# Altium footprint library KF接线端子.PcbLib: 153 footprints (part 8 of 10)
Each footprint in its own frame and in the unit in brackets; x right, y up, seen from the top. Pads: shape width x height; smd on the part's side, far side on the other; paste and mask are expansions set on the pad; w line width, h text height; cw(c..) or ccw(c..) is an arc to the next point about the centre after c.
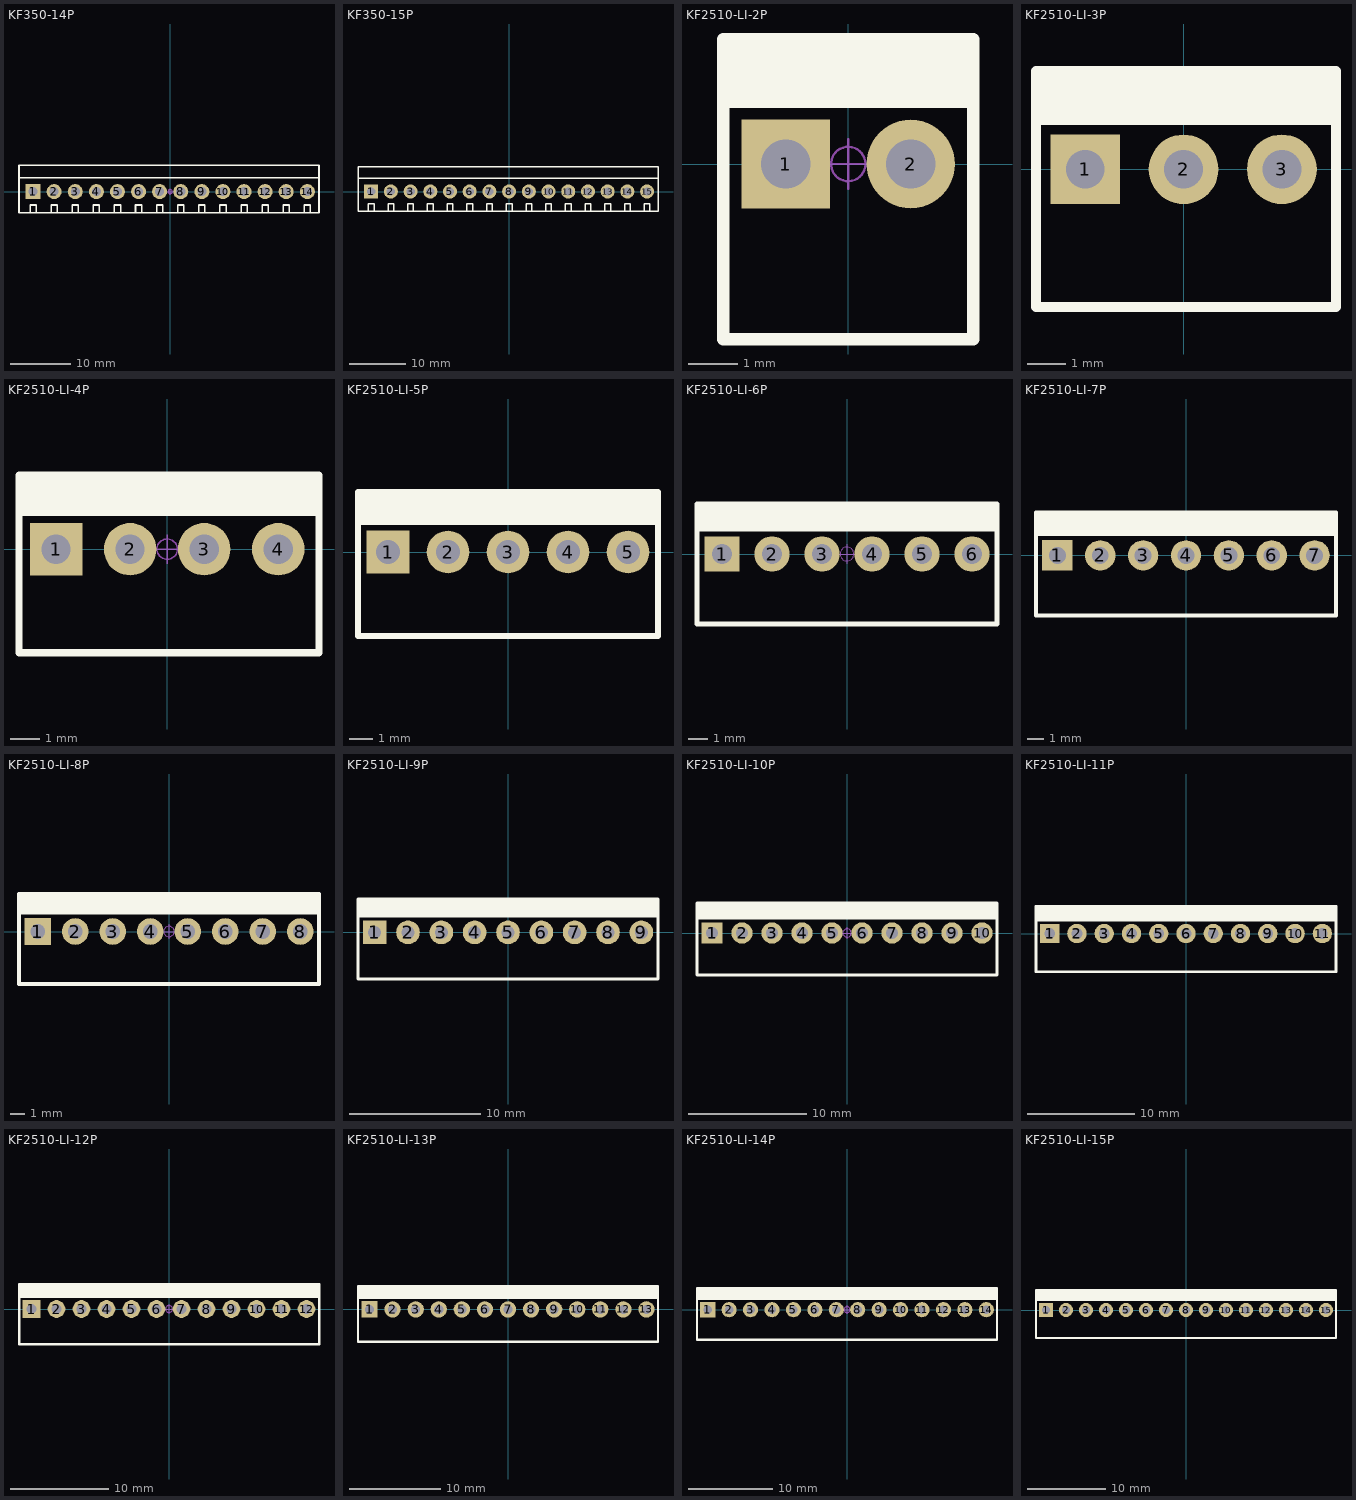
[diagram p7: the footprints below, top view; thin cyan lines are the x and y axes]

## KF350-14P [mm] "可拼接端子/10A"
pads (14):
  rect 2.5x2.5 hole 1.5: 1(-22.75,0)
  round 2.5 hole 1.5: 2(-19.25,0) 3(-15.75,0) 4(-12.25,0) 5(-8.75,0) 6(-5.25,0) 7(-1.75,0) 8(1.75,0) 9(5.25,0) 10(8.75,0) 11(12.25,0) 12(15.75,0) 13(19.25,0) 14(22.75,0)
Top Overlay:
  lines w0.254: -25.087,2.337 3.691,2.337 7.153,2.337 ; -23.258,-3.48 -23.258,-2.21 -22.242,-2.21 -22.242,-3.48 ; -19.758,-3.48 -19.758,-2.21 -18.742,-2.21 -18.742,-3.48 ; -16.258,-3.48 -16.258,-2.21 -15.242,-2.21 -15.242,-3.48 ; -12.758,-3.48 -12.758,-2.21 -11.742,-2.21 -11.742,-3.48 ; -9.258,-3.48 -9.258,-2.21 -8.242,-2.21 -8.242,-3.48 ; -5.757,-3.48 -5.757,-2.21 -4.741,-2.21 -4.741,-3.48 ; -2.252,-3.48 -2.252,-2.21 -1.236,-2.21 -1.236,-3.48 ; 1.253,-3.48 1.253,-2.21 2.269,-2.21 2.269,-3.48 ; 4.753,-3.48 4.753,-2.21 5.769,-2.21 5.769,-3.48 ; 7.191,-3.48 3.691,-3.48 -25.087,-3.48 -25.087,4.369 3.691,4.369 7.191,4.369 ; 7.191,-3.48 10.691,-3.48 14.191,-3.48 17.691,-3.48 21.191,-3.48 24.691,-3.48 24.691,4.369 21.191,4.369 17.691,4.369 14.191,4.369 10.691,4.369 7.191,4.369 ; 7.191,2.337 10.653,2.337 ; 8.253,-3.48 8.253,-2.21 9.269,-2.21 9.269,-3.48 ; 10.691,2.337 14.153,2.337 ; 11.753,-3.48 11.753,-2.21 12.769,-2.21 12.769,-3.48 ; 14.191,2.337 17.653,2.337 ; 15.253,-3.48 15.253,-2.21 16.269,-2.21 16.269,-3.48 ; 17.691,2.337 21.153,2.337 ; 18.753,-3.48 18.753,-2.21 19.769,-2.21 19.769,-3.48 ; 21.191,2.337 24.653,2.337 ; 22.253,-3.48 22.253,-2.21 23.269,-2.21 23.269,-3.48
Mechanical 15:
  circle w0.05: c0,0 r0.35
  lines w0.05: -0.5,0 0.5,0 ; 0,-0.5 0,0.5
3D body: height 10, standoff -3.8, extent -24.9,-3.3 -21,4.2
3D body: height 10, standoff -3.8, extent -21.4,-3.3 -17.5,4.2
3D body: height 10, standoff -3.8, extent -17.9,-3.3 -14,4.2
3D body: height 10, standoff -3.8, extent -14.4,-3.3 -10.5,4.2
3D body: height 10, standoff -3.8, extent -10.9,-3.3 -7,4.2
3D body: height 10, standoff -3.8, extent -7.4,-3.3 -3.5,4.2
3D body: height 10, standoff -3.8, extent -3.9,-3.3 0,4.2
3D body: height 10, standoff -3.8, extent -0.4,-3.3 3.5,4.2
3D body: height 10, standoff -3.8, extent 3.1,-3.3 7,4.2
3D body: height 10, standoff -3.8, extent 6.6,-3.3 10.5,4.2
3D body: height 10, standoff -3.8, extent 10.1,-3.3 14,4.2
3D body: height 10, standoff -3.8, extent 13.6,-3.3 17.5,4.2
3D body: height 10, standoff -3.8, extent 17.1,-3.3 21,4.2
3D body: height 10, standoff -3.8, extent 20.6,-3.3 24.5,4.2

## KF350-15P [mm] "可拼接端子/10A"
pads (15):
  rect 2.5x2.5 hole 1.5: 1(-24.5,0)
  round 2.5 hole 1.5: 2(-21,0) 3(-17.5,0) 4(-14,0) 5(-10.5,0) 6(-7,0) 7(-3.5,0) 8(0,0) 9(3.5,0) 10(7,0) 11(10.5,0) 12(14,0) 13(17.5,0) 14(21,0) 15(24.5,0)
Top Overlay:
  lines w0.254: -26.837,2.337 1.941,2.337 5.403,2.337 ; -25.008,-3.48 -25.008,-2.21 -23.992,-2.21 -23.992,-3.48 ; -21.508,-3.48 -21.508,-2.21 -20.492,-2.21 -20.492,-3.48 ; -18.008,-3.48 -18.008,-2.21 -16.992,-2.21 -16.992,-3.48 ; -14.508,-3.48 -14.508,-2.21 -13.492,-2.21 -13.492,-3.48 ; -11.008,-3.48 -11.008,-2.21 -9.992,-2.21 -9.992,-3.48 ; -7.507,-3.48 -7.507,-2.21 -6.491,-2.21 -6.491,-3.48 ; -4.002,-3.48 -4.002,-2.21 -2.986,-2.21 -2.986,-3.48 ; -0.497,-3.48 -0.497,-2.21 0.519,-2.21 0.519,-3.48 ; 3.003,-3.48 3.003,-2.21 4.019,-2.21 4.019,-3.48 ; 5.441,2.337 8.903,2.337 ; 6.503,-3.48 6.503,-2.21 7.519,-2.21 7.519,-3.48 ; 8.941,2.337 12.403,2.337 ; 10.003,-3.48 10.003,-2.21 11.019,-2.21 11.019,-3.48 ; 12.441,2.337 15.903,2.337 ; 13.503,-3.48 13.503,-2.21 14.519,-2.21 14.519,-3.48 ; 15.941,2.337 19.403,2.337 ; 17.003,-3.48 17.003,-2.21 18.019,-2.21 18.019,-3.48 ; 19.441,2.337 22.903,2.337 ; 20.503,-3.48 20.503,-2.21 21.519,-2.21 21.519,-3.48 ; 22.941,2.337 26.403,2.337 ; 24.003,-3.48 24.003,-2.21 25.019,-2.21 25.019,-3.48 ; -26.837,-3.48 1.941,-3.48 5.441,-3.48 8.941,-3.48 12.441,-3.48 15.941,-3.48 19.441,-3.48 22.941,-3.48 26.441,-3.48 26.441,4.369 22.941,4.369 19.441,4.369 15.941,4.369 12.441,4.369 8.941,4.369 5.441,4.369 1.941,4.369 -26.837,4.369 -26.837,-3.48
Mechanical 15:
  circle w0.05: c0,0 r0.35
  lines w0.05: -0.5,0 0.5,0 ; 0,-0.5 0,0.5
3D body: height 10, standoff -3.8, extent 22.35,-3.3 26.25,4.2
3D body: height 10, standoff -3.8, extent 18.85,-3.3 22.75,4.2
3D body: height 10, standoff -3.8, extent 15.35,-3.3 19.25,4.2
3D body: height 10, standoff -3.8, extent 11.85,-3.3 15.75,4.2
3D body: height 10, standoff -3.8, extent 8.35,-3.3 12.25,4.2
3D body: height 10, standoff -3.8, extent 4.85,-3.3 8.75,4.2
3D body: height 10, standoff -3.8, extent 1.35,-3.3 5.25,4.2
3D body: height 10, standoff -3.8, extent -2.15,-3.3 1.75,4.2
3D body: height 10, standoff -3.8, extent -5.65,-3.3 -1.75,4.2
3D body: height 10, standoff -3.8, extent -9.15,-3.3 -5.25,4.2
3D body: height 10, standoff -3.8, extent -12.65,-3.3 -8.75,4.2
3D body: height 10, standoff -3.8, extent -16.15,-3.3 -12.25,4.2
3D body: height 10, standoff -3.8, extent -19.65,-3.3 -15.75,4.2
3D body: height 10, standoff -3.8, extent -23.15,-3.3 -19.25,4.2
3D body: height 10, standoff -3.8, extent -26.65,-3.3 -22.75,4.2

## KF2510-LI-2P [mm] "接插件/2A"
height 11
pads (2):
  rect 1.8x1.8 hole 1: 1(-1.27,0)
  round 1.8 hole 1: 2(1.27,0)
Top Overlay:
  rectangle: -2.591,1.27 2.489,2.54
  lines w0.254: -2.54,1.27 2.489,1.27 ; -2.54,-3.556 -2.54,2.54 2.54,2.54 2.54,-3.556 -2.54,-3.556
Mechanical 15:
  circle w0.05: c0,0 r0.35
  lines w0.05: -0.5,0 0.5,0 ; 0,-0.5 0,0.5
3D body: height 11.05, standoff -2.95, extent 0,-3.5 2.54,2.4
3D body: height 11.05, standoff -2.95, extent -2.54,-3.5 0,2.4

## KF2510-LI-3P [mm] "接插件/2A"
pads (3):
  rect 1.8x1.8 hole 1: 1(-2.54,0)
  round 1.8 hole 1: 2(0,0) 3(2.54,0)
Top Overlay:
  rectangle: -3.81,1.27 3.937,2.54
  lines w0.254: -3.81,1.27 3.937,1.27 ; -3.81,-3.556 3.937,-3.556 3.937,2.54 -3.81,2.54 -3.81,-3.556
Mechanical 15:
  circle w0.05: c0,0 r0.35
  lines w0.05: -0.5,0 0.5,0 ; 0,-0.5 0,0.5
3D body: height 11.05, standoff -2.95, extent 1.27,-3.5 3.81,2.4
3D body: height 11.05, standoff -2.95, extent -3.81,-3.5 -1.27,2.4
3D body: height 11.05, standoff -2.95, extent -1.27,-3.5 1.27,2.4

## KF2510-LI-4P [mm] "接插件/2A"
pads (4):
  rect 1.8x1.8 hole 1: 1(-3.81,0)
  round 1.8 hole 1: 2(-1.27,0) 3(1.27,0) 4(3.81,0)
Top Overlay:
  rectangle: -5.08,1.27 5.207,2.54
  lines w0.254: -5.08,1.27 5.207,1.27 ; -5.08,-3.556 -5.08,2.54 5.207,2.54 5.207,-3.556 -5.08,-3.556
Mechanical 15:
  circle w0.05: c0,0 r0.35
  lines w0.05: -0.5,0 0.5,0 ; 0,-0.5 0,0.5
3D body: height 11.05, standoff -2.95, extent -2.54,-3.5 0,2.4
3D body: height 11.05, standoff -2.95, extent 0,-3.5 2.54,2.4
3D body: height 11.05, standoff -2.95, extent -5.08,-3.5 -2.54,2.4
3D body: height 11.05, standoff -2.95, extent 2.54,-3.5 5.08,2.4

## KF2510-LI-5P [mm] "接插件/2A"
pads (5):
  rect 1.8x1.8 hole 1: 1(-5.08,0)
  round 1.8 hole 1: 2(-2.54,0) 3(0,0) 4(2.54,0) 5(5.08,0)
Top Overlay:
  rectangle: -6.35,1.27 6.35,2.538
  lines w0.254: -6.35,1.27 6.35,1.27 ; -6.35,-3.556 6.35,-3.556 6.35,2.54 -6.35,2.54 -6.35,-3.556
Mechanical 15:
  circle w0.05: c0,0 r0.35
  lines w0.05: -0.5,0 0.5,0 ; 0,-0.5 0,0.5
3D body: height 11.05, standoff -2.95, extent -3.81,-3.5 -1.27,2.4
3D body: height 11.05, standoff -2.95, extent -1.27,-3.5 1.27,2.4
3D body: height 11.05, standoff -2.95, extent 1.27,-3.5 3.81,2.4
3D body: height 11.05, standoff -2.95, extent -6.35,-3.5 -3.81,2.4
3D body: height 11.05, standoff -2.95, extent 3.81,-3.5 6.35,2.4

## KF2510-LI-6P [mm] "接插件/2A"
pads (6):
  rect 1.8x1.8 hole 1: 1(-6.35,0)
  round 1.8 hole 1: 2(-3.81,0) 3(-1.27,0) 4(1.27,0) 5(3.81,0) 6(6.35,0)
Top Overlay:
  rectangle: -7.62,1.27 7.62,2.54
  lines w0.254: -7.62,1.27 7.62,1.27 ; -7.62,-3.556 -7.62,2.54 7.62,2.54 7.62,-3.556 -7.62,-3.556
Mechanical 15:
  circle w0.05: c0,0 r0.35
  lines w0.05: -0.5,0 0.5,0 ; 0,-0.5 0,0.5
3D body: height 11.05, standoff -2.95, extent 5.08,-3.5 7.62,2.4
3D body: height 11.05, standoff -2.95, extent -7.62,-3.5 -5.08,2.4
3D body: height 11.05, standoff -2.95, extent 2.54,-3.5 5.08,2.4
3D body: height 11.05, standoff -2.95, extent 0,-3.5 2.54,2.4
3D body: height 11.05, standoff -2.95, extent -2.54,-3.5 0,2.4
3D body: height 11.05, standoff -2.95, extent -5.08,-3.5 -2.54,2.4

## KF2510-LI-7P [mm] "接插件/2A"
pads (7):
  rect 1.8x1.8 hole 1: 1(-7.62,0)
  round 1.8 hole 1: 2(-5.08,0) 3(-2.54,0) 4(0,0) 5(2.54,0) 6(5.08,0) 7(7.62,0)
Top Overlay:
  rectangle: -8.89,1.27 8.89,2.54
  lines w0.254: -8.89,1.27 8.89,1.27 ; -8.89,-3.556 -8.89,2.54 8.89,2.54 8.89,-3.556 -8.89,-3.556
Mechanical 15:
  circle w0.05: c0,0 r0.35
  lines w0.05: -0.5,0 0.5,0 ; 0,-0.5 0,0.5
3D body: height 11.05, standoff -2.95, extent -6.35,-3.5 -3.81,2.4
3D body: height 11.05, standoff -2.95, extent -3.81,-3.5 -1.27,2.4
3D body: height 11.05, standoff -2.95, extent -1.27,-3.5 1.27,2.4
3D body: height 11.05, standoff -2.95, extent 1.27,-3.5 3.81,2.4
3D body: height 11.05, standoff -2.95, extent 3.81,-3.5 6.35,2.4
3D body: height 11.05, standoff -2.95, extent -8.89,-3.5 -6.35,2.4
3D body: height 11.05, standoff -2.95, extent 6.35,-3.5 8.89,2.4

## KF2510-LI-8P [mm] "接插件/2A"
pads (8):
  rect 1.8x1.8 hole 1: 1(-8.89,0)
  round 1.8 hole 1: 2(-6.35,0) 3(-3.81,0) 4(-1.27,0) 5(1.27,0) 6(3.81,0) 7(6.35,0) 8(8.89,0)
Top Overlay:
  rectangle: -10.16,1.27 10.16,2.54
  lines w0.254: -10.16,1.27 10.16,1.27 ; -10.16,-3.556 10.16,-3.556 10.16,2.54 -10.16,2.54 -10.16,-3.556
Mechanical 15:
  circle w0.05: c0,0 r0.35
  lines w0.05: -0.5,0 0.5,0 ; 0,-0.5 0,0.5
3D body: height 11.05, standoff -2.95, extent 5.08,-3.5 7.62,2.4
3D body: height 11.05, standoff -2.95, extent 2.54,-3.5 5.08,2.4
3D body: height 11.05, standoff -2.95, extent 0,-3.5 2.54,2.4
3D body: height 11.05, standoff -2.95, extent -2.54,-3.5 0,2.4
3D body: height 11.05, standoff -2.95, extent -5.08,-3.5 -2.54,2.4
3D body: height 11.05, standoff -2.95, extent -7.62,-3.5 -5.08,2.4
3D body: height 11.05, standoff -2.95, extent 7.62,-3.5 10.16,2.4
3D body: height 11.05, standoff -2.95, extent -10.16,-3.5 -7.62,2.4

## KF2510-LI-9P [mm] "接插件/2A"
pads (9):
  rect 1.8x1.8 hole 1: 1(-10.16,0)
  round 1.8 hole 1: 2(-7.62,0) 3(-5.08,0) 4(-2.54,0) 5(0,0) 6(2.54,0) 7(5.08,0) 8(7.62,0) 9(10.16,0)
Top Overlay:
  rectangle: -11.43,1.27 11.43,2.54
  lines w0.254: -11.43,1.27 11.43,1.27 ; -11.43,-3.556 -11.43,2.54 11.43,2.54 11.43,-3.556 -11.43,-3.556
Mechanical 15:
  circle w0.05: c0,0 r0.35
  lines w0.05: -0.5,0 0.5,0 ; 0,-0.5 0,0.5
3D body: height 11.05, standoff -2.95, extent -11.43,-3.5 -8.89,2.4
3D body: height 11.05, standoff -2.95, extent 8.89,-3.5 11.43,2.4
3D body: height 11.05, standoff -2.95, extent -8.89,-3.5 -6.35,2.4
3D body: height 11.05, standoff -2.95, extent -6.35,-3.5 -3.81,2.4
3D body: height 11.05, standoff -2.95, extent -3.81,-3.5 -1.27,2.4
3D body: height 11.05, standoff -2.95, extent -1.27,-3.5 1.27,2.4
3D body: height 11.05, standoff -2.95, extent 1.27,-3.5 3.81,2.4
3D body: height 11.05, standoff -2.95, extent 3.81,-3.5 6.35,2.4
3D body: height 11.05, standoff -2.95, extent 6.35,-3.5 8.89,2.4

## KF2510-LI-10P [mm] "接插件/2A"
pads (10):
  rect 1.8x1.8 hole 1: 1(-11.43,0)
  round 1.8 hole 1: 2(-8.89,0) 3(-6.35,0) 4(-3.81,0) 5(-1.27,0) 6(1.27,0) 7(3.81,0) 8(6.35,0) 9(8.89,0) 10(11.43,0)
Top Overlay:
  rectangle: -12.7,1.27 12.7,2.54
  lines w0.254: -12.7,1.27 12.7,1.27 ; -12.7,-3.556 -12.7,2.54 12.7,2.54 12.7,-3.556 -12.7,-3.556
Mechanical 15:
  circle w0.05: c0,0 r0.35
  lines w0.05: -0.5,0 0.5,0 ; 0,-0.5 0,0.5
3D body: height 11.05, standoff -2.95, extent -12.7,-3.5 -10.16,2.4
3D body: height 11.05, standoff -2.95, extent 10.16,-3.5 12.7,2.4
3D body: height 11.05, standoff -2.95, extent -10.16,-3.5 -7.62,2.4
3D body: height 11.05, standoff -2.95, extent -7.62,-3.5 -5.08,2.4
3D body: height 11.05, standoff -2.95, extent -5.08,-3.5 -2.54,2.4
3D body: height 11.05, standoff -2.95, extent -2.54,-3.5 0,2.4
3D body: height 11.05, standoff -2.95, extent 0,-3.5 2.54,2.4
3D body: height 11.05, standoff -2.95, extent 2.54,-3.5 5.08,2.4
3D body: height 11.05, standoff -2.95, extent 5.08,-3.5 7.62,2.4
3D body: height 11.05, standoff -2.95, extent 7.62,-3.5 10.16,2.4

## KF2510-LI-11P [mm] "接插件/2A"
pads (11):
  rect 1.8x1.8 hole 1: 1(-12.7,0)
  round 1.8 hole 1: 2(-10.16,0) 3(-7.62,0) 4(-5.08,0) 5(-2.54,0) 6(0,0) 7(2.54,0) 8(5.08,0) 9(7.62,0) 10(10.16,0) 11(12.7,0)
Top Overlay:
  rectangle: -13.97,1.27 13.97,2.54
  lines w0.254: -13.97,1.27 13.97,1.27 ; -13.97,-3.556 13.97,-3.556 13.97,2.54 -13.97,2.54 -13.97,-3.556
Mechanical 15:
  circle w0.05: c0,0 r0.35
  lines w0.05: -0.5,0 0.5,0 ; 0,-0.5 0,0.5
3D body: height 11.05, standoff -2.95, extent 8.89,-3.5 11.43,2.4
3D body: height 11.05, standoff -2.95, extent 6.35,-3.5 8.89,2.4
3D body: height 11.05, standoff -2.95, extent 3.81,-3.5 6.35,2.4
3D body: height 11.05, standoff -2.95, extent 1.27,-3.5 3.81,2.4
3D body: height 11.05, standoff -2.95, extent -1.27,-3.5 1.27,2.4
3D body: height 11.05, standoff -2.95, extent -3.81,-3.5 -1.27,2.4
3D body: height 11.05, standoff -2.95, extent -6.35,-3.5 -3.81,2.4
3D body: height 11.05, standoff -2.95, extent -8.89,-3.5 -6.35,2.4
3D body: height 11.05, standoff -2.95, extent -11.43,-3.5 -8.89,2.4
3D body: height 11.05, standoff -2.95, extent 11.43,-3.5 13.97,2.4
3D body: height 11.05, standoff -2.95, extent -13.97,-3.5 -11.43,2.4

## KF2510-LI-12P [mm] "接插件/2A"
pads (12):
  rect 1.8x1.8 hole 1: 1(-13.97,0)
  round 1.8 hole 1: 2(-11.43,0) 3(-8.89,0) 4(-6.35,0) 5(-3.81,0) 6(-1.27,0) 7(1.27,0) 8(3.81,0) 9(6.35,0) 10(8.89,0) 11(11.43,0) 12(13.97,0)
Top Overlay:
  rectangle: -15.24,1.27 15.24,2.54
  lines w0.254: -15.24,1.27 15.24,1.27 ; -15.24,-3.556 -15.24,2.54 15.24,2.54 15.24,-3.556 -15.24,-3.556
Mechanical 15:
  circle w0.05: c0,0 r0.35
  lines w0.05: -0.5,0 0.5,0 ; 0,-0.5 0,0.5
3D body: height 11.05, standoff -2.95, extent -15.24,-3.5 -12.7,2.4
3D body: height 11.05, standoff -2.95, extent 12.7,-3.5 15.24,2.4
3D body: height 11.05, standoff -2.95, extent -12.7,-3.5 -10.16,2.4
3D body: height 11.05, standoff -2.95, extent -10.16,-3.5 -7.62,2.4
3D body: height 11.05, standoff -2.95, extent -7.62,-3.5 -5.08,2.4
3D body: height 11.05, standoff -2.95, extent -5.08,-3.5 -2.54,2.4
3D body: height 11.05, standoff -2.95, extent -2.54,-3.5 0,2.4
3D body: height 11.05, standoff -2.95, extent 0,-3.5 2.54,2.4
3D body: height 11.05, standoff -2.95, extent 2.54,-3.5 5.08,2.4
3D body: height 11.05, standoff -2.95, extent 5.08,-3.5 7.62,2.4
3D body: height 11.05, standoff -2.95, extent 7.62,-3.5 10.16,2.4
3D body: height 11.05, standoff -2.95, extent 10.16,-3.5 12.7,2.4

## KF2510-LI-13P [mm] "接插件/2A"
pads (13):
  rect 1.8x1.8 hole 1: 1(-15.24,0)
  round 1.8 hole 1: 2(-12.7,0) 3(-10.16,0) 4(-7.62,0) 5(-5.08,0) 6(-2.54,0) 7(0,0) 8(2.54,0) 9(5.08,0) 10(7.62,0) 11(10.16,0) 12(12.7,0) 13(15.24,0)
Top Overlay:
  rectangle: -16.51,1.27 16.51,2.54
  lines w0.254: -16.51,1.27 16.51,1.27 ; -16.51,-3.556 16.51,-3.556 16.51,2.54 -16.51,2.54 -16.51,-3.556
Mechanical 15:
  circle w0.05: c0,0 r0.35
  lines w0.05: -0.5,0 0.5,0 ; 0,-0.5 0,0.5
3D body: height 11.05, standoff -2.95, extent 11.43,-3.5 13.97,2.4
3D body: height 11.05, standoff -2.95, extent 8.89,-3.5 11.43,2.4
3D body: height 11.05, standoff -2.95, extent 6.35,-3.5 8.89,2.4
3D body: height 11.05, standoff -2.95, extent 3.81,-3.5 6.35,2.4
3D body: height 11.05, standoff -2.95, extent 1.27,-3.5 3.81,2.4
3D body: height 11.05, standoff -2.95, extent -1.27,-3.5 1.27,2.4
3D body: height 11.05, standoff -2.95, extent -3.81,-3.5 -1.27,2.4
3D body: height 11.05, standoff -2.95, extent -6.35,-3.5 -3.81,2.4
3D body: height 11.05, standoff -2.95, extent -8.89,-3.5 -6.35,2.4
3D body: height 11.05, standoff -2.95, extent -11.43,-3.5 -8.89,2.4
3D body: height 11.05, standoff -2.95, extent -13.97,-3.5 -11.43,2.4
3D body: height 11.05, standoff -2.95, extent 13.97,-3.5 16.51,2.4
3D body: height 11.05, standoff -2.95, extent -16.51,-3.5 -13.97,2.4

## KF2510-LI-14P [mm] "接插件/2A"
pads (14):
  rect 1.8x1.8 hole 1: 1(-16.51,0)
  round 1.8 hole 1: 2(-13.97,0) 3(-11.43,0) 4(-8.89,0) 5(-6.35,0) 6(-3.81,0) 7(-1.27,0) 8(1.27,0) 9(3.81,0) 10(6.35,0) 11(8.89,0) 12(11.43,0) 13(13.97,0) 14(16.51,0)
Top Overlay:
  rectangle: -17.78,1.27 17.78,2.54
  lines w0.254: -17.78,1.27 17.78,1.27 ; -17.78,-3.556 17.78,-3.556 17.78,2.54 -17.78,2.54 -17.78,-3.556
Mechanical 15:
  circle w0.05: c0,0 r0.35
  lines w0.05: -0.5,0 0.5,0 ; 0,-0.5 0,0.5
3D body: height 11.05, standoff -2.95, extent 12.7,-3.5 15.24,2.4
3D body: height 11.05, standoff -2.95, extent 10.16,-3.5 12.7,2.4
3D body: height 11.05, standoff -2.95, extent 7.62,-3.5 10.16,2.4
3D body: height 11.05, standoff -2.95, extent 5.08,-3.5 7.62,2.4
3D body: height 11.05, standoff -2.95, extent 2.54,-3.5 5.08,2.4
3D body: height 11.05, standoff -2.95, extent 0,-3.5 2.54,2.4
3D body: height 11.05, standoff -2.95, extent -2.54,-3.5 0,2.4
3D body: height 11.05, standoff -2.95, extent -5.08,-3.5 -2.54,2.4
3D body: height 11.05, standoff -2.95, extent -7.62,-3.5 -5.08,2.4
3D body: height 11.05, standoff -2.95, extent -10.16,-3.5 -7.62,2.4
3D body: height 11.05, standoff -2.95, extent -12.7,-3.5 -10.16,2.4
3D body: height 11.05, standoff -2.95, extent -15.24,-3.5 -12.7,2.4
3D body: height 11.05, standoff -2.95, extent 15.24,-3.5 17.78,2.4
3D body: height 11.05, standoff -2.95, extent -17.78,-3.5 -15.24,2.4

## KF2510-LI-15P [mm] "接插件/2A"
pads (15):
  rect 1.8x1.8 hole 1: 1(-17.78,0)
  round 1.8 hole 1: 2(-15.24,0) 3(-12.7,0) 4(-10.16,0) 5(-7.62,0) 6(-5.08,0) 7(-2.54,0) 8(0,0) 9(2.54,0) 10(5.08,0) 11(7.62,0) 12(10.16,0) 13(12.7,0) 14(15.24,0) 15(17.78,0)
Top Overlay:
  rectangle: -19.05,1.27 19.05,2.54
  lines w0.254: -19.05,1.27 19.05,1.27 ; -19.05,-3.556 -19.05,2.54 19.05,2.54 19.05,-3.556 -19.05,-3.556
Mechanical 15:
  circle w0.05: c0,0 r0.35
  lines w0.05: -0.5,0 0.5,0 ; 0,-0.5 0,0.5
3D body: height 11.05, standoff -2.95, extent -19.05,-3.5 -16.51,2.4
3D body: height 11.05, standoff -2.95, extent 16.51,-3.5 19.05,2.4
3D body: height 11.05, standoff -2.95, extent -16.51,-3.5 -13.97,2.4
3D body: height 11.05, standoff -2.95, extent -13.97,-3.5 -11.43,2.4
3D body: height 11.05, standoff -2.95, extent -11.43,-3.5 -8.89,2.4
3D body: height 11.05, standoff -2.95, extent -8.89,-3.5 -6.35,2.4
3D body: height 11.05, standoff -2.95, extent -6.35,-3.5 -3.81,2.4
3D body: height 11.05, standoff -2.95, extent -3.81,-3.5 -1.27,2.4
3D body: height 11.05, standoff -2.95, extent -1.27,-3.5 1.27,2.4
3D body: height 11.05, standoff -2.95, extent 1.27,-3.5 3.81,2.4
3D body: height 11.05, standoff -2.95, extent 3.81,-3.5 6.35,2.4
3D body: height 11.05, standoff -2.95, extent 6.35,-3.5 8.89,2.4
3D body: height 11.05, standoff -2.95, extent 8.89,-3.5 11.43,2.4
3D body: height 11.05, standoff -2.95, extent 11.43,-3.5 13.97,2.4
3D body: height 11.05, standoff -2.95, extent 13.97,-3.5 16.51,2.4